# Altium schematic symbol library smtso20100ctj.SchLib: 1 symbol
Pins are listed as number, name and electrical type; pins without a type are passive.

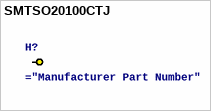
[diagram p0: symbol SMTSO20100CTJ]

## SMTSO20100CTJ
designator H?
Standoff M2 x 0.4, tin-plated, 10 mm height
pins: 1